# Altium footprint library PROC051C_PCB.PcbLib: 65 footprints (part 3 of 5)
Each footprint in its own frame and in the unit in brackets; x right, y up, seen from the top. Pads: shape width x height; smd on the part's side, far side on the other; paste and mask are expansions set on the pad; w line width, h text height; cw(c..) or ccw(c..) is an arc to the next point about the centre after c.
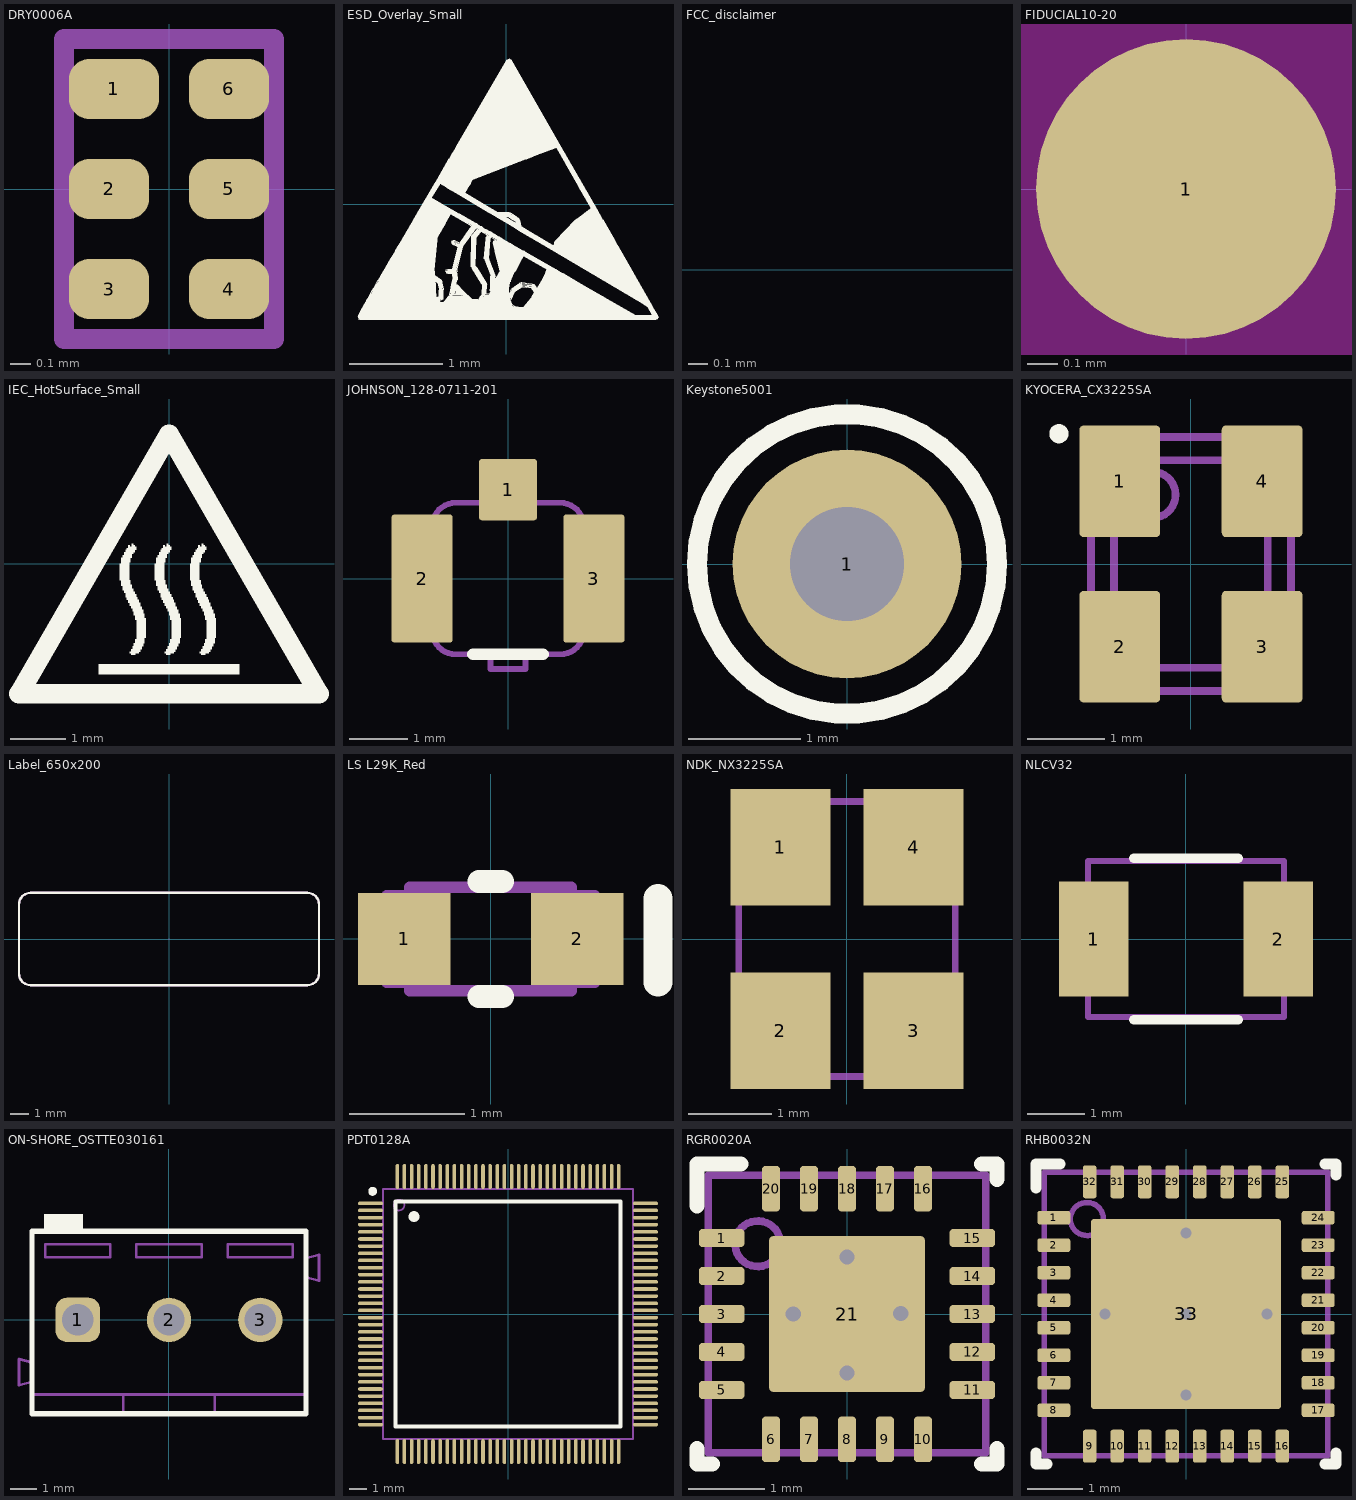
[diagram p2: the footprints below, top view; thin cyan lines are the x and y axes]

## DRY0006A [mm] "USON-6"
height 0.6
pads (6):
  rrect67% 0.45x0.3 smd paste-0.05 mask-0.05: 1(-0.275,0.5)
  rrect67% 0.4x0.3 smd paste-0.05 mask-0.05: 2(-0.3,0) 3(-0.3,-0.5) 4(0.3,-0.5) 5(0.3,0) 6(0.3,0.5)
Mechanical 5:
  circle w0.05: c-0.325,0.5 r0.1
  lines w0.1: -0.525,-0.75 0.525,-0.75 0.525,0.75 -0.525,0.75 -0.525,-0.75
  text ".Designator" at -0.075,0.575 h0.3
3D body "DRY0006A.stp": height 0.58, standoff 0, extent -0.5,-0.725 0.5,0.725

## ESD_Overlay_Small [mm]
height 0.6
Top Overlay:
  drawing of 901 lines, arcs and shapes, not listed

## FCC_disclaimer [mm]
Top Overlay:
  text "For evaluation only; not FCC approved for resale." at -15.928,-0.353 h1.52

## FIDUCIAL10-20 [mm]
height 0.6
pads (1):
  round 1 smd mask+0.5: 1(0,0)
Top Layer keep-out:
  circle w1.178: c0,0 r0.5

## IEC_HotSurface_Small [mm]
Top Overlay:
  drawing of 10 lines, arcs and shapes, not listed

## JOHNSON_128-0711-201 [mm] "UMC Straight Jack Receptacle, 50 Ohm, SMT"
height 1.25
pads (3):
  rrect10% 1x1.05 smd: 1(0,1.525)
  rrect10% 1.05x2.2 smd: 2(-1.475,0) 3(1.475,0)
Top Overlay:
  lines w0.2: -0.6,-1.3 0.6,-1.3
Mechanical 5:
  lines w0.1: -0.3,1.3 -0.3,1.55 0.3,1.55 0.3,1.3 ; -1.3,-0.9 ccw(c-0.9,-0.9) -0.9,-1.3 -0.3,-1.3 -0.3,-1.55 0.3,-1.55 0.3,-1.3 0.9,-1.3 ccw(c0.9,-0.9) 1.3,-0.9 ; -1.3,-0.9 -1.3,0.9 ; -1.3,-0.9 -1.5,-0.9 -1.5,0.9 -1.3,0.9 ; -1.3,0.9 cw(c-0.9,0.9) -0.9,1.3 0.9,1.3 cw(c0.9,0.9) 1.3,0.9 ; 1.3,-0.9 1.3,0.9 ; 1.3,-0.9 1.5,-0.9 1.5,0.9 1.3,0.9
  text ".Designator" at -0.297,-0.247 h0.8
3D body "128-0711-201.stp": height 1.25, standoff 0, extent -1.5,-1.55 1.5,1.55

## Keystone5001 [mil] "For Keystone 500x miniature loop terminals"
height 181.1
pads (1):
  round 80 hole 40: 1(0,0)
Top Overlay:
  circle w7: c0,0 r52.5
Mechanical 5:
  circle w3.94: c0,0 r52.5
  text ".Designator" at -92.97,-15 h18
3D body "Keystone_5001.stp": height 181.97, standoff -118.11, extent -49,-49 49.04,49.24

## KYOCERA_CX3225SA [mm] "SMD, 4-Leads, Body 3.2x2.5mm"
height 0.9
pads (4):
  rrect10% 1.05x1.45 smd: 1(-0.925,1.075) 2(-0.925,-1.075) 3(0.925,-1.075) 4(0.925,1.075)
Top Overlay:
  circle w0.125: c-1.717,1.694 r0.062
Mechanical 5:
  circle w0.1: c-0.5,0.9 r0.3
  lines w0.1: -1.3,-1.35 cw(c-1.3,-1.65) -1,-1.65 1,-1.65 cw(c1.3,-1.65) 1.3,-1.35 1.3,1.35 cw(c1.3,1.65) 1,1.65 -1,1.65 cw(c-1.3,1.65) -1.3,1.35 -1.3,-1.35 ; -1,-1.05 ccw(c-0.7,-1.05) -0.7,-1.35 0.7,-1.35 ccw(c0.7,-1.05) 1,-1.05 1,1.05 ccw(c0.7,1.05) 0.7,1.35 -0.7,1.35 ccw(c-0.7,1.05) -1,1.05 -1,-1.05
  text ".Designator" at -0.475,-0.461 h0.8
3D body: height 0.9, standoff 0.4, extent -0.999,-1.349 0.999,1.349
3D body: height 0.6, standoff 0, extent -1.301,-1.651 1.301,1.651
3D body: height 0.9, standoff 0.8, extent -0.799,0.601 -0.201,1.199

## Label_650x200 [mil] "Thermal Transfer Label"
height 1
pads (1):
  round 1 on Mech13: 0(0,0)
Top Overlay:
  lines w5: -325,-75 ccw(c-300,-75) -300,-100 300,-100 ccw(c300,-75) 325,-75 325,75 ccw(c300,75) 300,100 -300,100 ccw(c-300,75) -325,75 -325,-75
Mechanical 5:
  lines w5: -325,-75 ccw(c-300,-75) -300,-100 300,-100 ccw(c300,-75) 325,-75 325,75 ccw(c300,75) 300,100 -300,100 ccw(c-300,75) -325,75 -325,-75
  text ".Designator" at -60,-20 h40
3D body: height 1, standoff 0, extent -325.02,-100.02 325.02,100.02

## LS L29K_Red [mm] "SMD, 2-Leads, Body 1.3x0.8mm"
height 0.67
pads (2):
  rect 0.8x0.8 smd paste-0.4: 1(-0.75,0) 2(0.75,0)
Top Overlay:
  lines w0.2: -0.1,-0.5 0.1,-0.5 ; -0.1,0.5 0.1,0.5
  lines w0.25: 1.45,-0.375 1.45,0.35
Top Paste:
  rectangle: 0.5,-0.35 1.1,0.35
  rectangle: -1.1,-0.35 -0.5,0.35
Mechanical 5:
  lines w0.1: 0.7,0.375 0.9,0.375 0.9,-0.375 0.7,-0.375 ; 0.7,-0.375 0.7,-0.45 -0.7,-0.45 -0.7,-0.375 -0.9,-0.375 -0.9,0.375 -0.7,0.375 -0.7,0.45 0.7,0.45 ; 0.7,-0.375 0.7,0.2 ; 0.7,0.2 0.7,0.45 ; 0.7,0.2 0.45,0.45 0.7,0.45
  text ".Designator" at -0.75,-0.2 h0.35
3D body: height 0.67, standoff 0.65, extent 0.451,0.201 0.699,0.449
3D body: height 0.67, standoff 0.18, extent -0.699,-0.449 0.699,0.449
3D body: height 0.18, standoff 0, extent -0.699,-0.449 0.699,0.449
3D body: height 0.18, standoff 0, extent 0.701,-0.374 0.899,0.374
3D body: height 0.18, standoff 0, extent -0.899,-0.374 -0.701,0.374

## NDK_NX3225SA [mm] "NDK"
height 0.6
pads (4):
  rect 1.2x1.4 smd: 1(-0.8,1.1) 2(-0.8,-1.1) 3(0.8,-1.1) 4(0.8,1.1)
Mechanical 5:
  circle w0.08: c-0.8,1.1 r0.2
  lines w0.08: -1.3,-1.65 1.3,-1.65 1.3,1.65 -1.3,1.65 -1.3,-1.65
  text ".Designator" at 0.401,-0.915 h0.7
3D body "NDK_NX3225SA.stp": height 0.7, standoff 0, extent -1.3,-1.65 1.3,1.65

## NLCV32 [mm] "TDK"
height 2.4
pads (2):
  rect 1.2x2 smd: 1(-1.6,0) 2(1.6,0)
Top Overlay:
  lines w0.17: -0.9,-1.4 0.9,-1.4 ; -0.9,1.4 0.9,1.4
Mechanical 5:
  lines w0.1: -1.7,-1.35 -1.7,1.35 1.7,1.35 1.7,-1.35 -1.7,-1.35
  text ".Designator" at -1.081,-0.386 h0.9
3D body: height 2.4, standoff 0, extent -1.699,-1.349 1.699,1.349

## ON-SHORE_OSTTE030161 [mm] "Terminal Block, 3.5mm, 3x1, TH"
height 8.5
pads (3):
  rrect50% 1.7x1.7 hole 1.2: 1(-3.5,0)
  round 1.7 hole 1.2: 2(0,0) 3(3.5,0)
Top Overlay:
  rectangle: -4.8,3.45 -3.3,4.05
  lines w0.2: -5.25,-3.6 -5.25,3.4 5.25,3.4 5.25,-3.6 -5.25,-3.6
Mechanical 5:
  lines w0.1: 5.25,1.634 5.75,1.5 5.75,2.5 5.25,2.366 ; -5.25,-2.859 -5.25,3.4 -1.75,3.4 1.75,3.4 5.25,3.4 5.25,-2.859 ; -5.25,-2.859 -5.25,-3.6 -1.75,-3.6 ; -5.25,-2.859 -1.75,-2.859 ; -1.75,-3.6 1.75,-3.6 ; -1.75,-3.6 -1.75,-2.859 ; -1.75,-3.6 -1.75,-2.859 ; -1.75,-2.859 1.75,-2.859 ; 1.75,-3.6 5.25,-3.6 5.25,-2.859 ; 1.75,-3.6 1.75,-2.859 ; 1.75,-3.6 1.75,-2.859 ; 1.75,-2.859 5.25,-2.859 ; -5.75,-2.5 -5.25,-2.366 -5.25,-1.634 -5.75,-1.5 -5.75,-2.5 ; -4.75,2.4 -4.75,2.9 -2.25,2.9 -2.25,2.4 -4.75,2.4 ; -1.25,2.4 -1.25,2.9 1.25,2.9 1.25,2.4 -1.25,2.4 ; 2.25,2.4 2.25,2.9 4.75,2.9 4.75,2.4 2.25,2.4
  text ".Designator" at -1.234,0.972 h1.85
3D body "OSTTE030161.stp": height 8.4, standoff -3.8, extent -5.75,-3.6 5.75,3.4

## PDT0128A [mm] "Thin QFP, 128-Leads, Body 14x14mm, Pitch 0.4mm"
height 1.2
pads (128):
  oval 1.4x0.2 smd: 1(-7.7,6.2) 2(-7.7,5.8) 3(-7.7,5.4) 4(-7.7,5) 5(-7.7,4.6) 6(-7.7,4.2) 7(-7.7,3.8) 8(-7.7,3.4) 9(-7.7,3) 10(-7.7,2.6) 11(-7.7,2.2) 12(-7.7,1.8) 13(-7.7,1.4) 14(-7.7,1) 15(-7.7,0.6) 16(-7.7,0.2) 17(-7.7,-0.2) 18(-7.7,-0.6) 19(-7.7,-1) 20(-7.7,-1.4) 21(-7.7,-1.8) 22(-7.7,-2.2) 23(-7.7,-2.6) 24(-7.7,-3) 25(-7.7,-3.4) 26(-7.7,-3.8) 27(-7.7,-4.2) 28(-7.7,-4.6) 29(-7.7,-5) 30(-7.7,-5.4) 31(-7.7,-5.8) 32(-7.7,-6.2) 65(7.7,-6.2) 66(7.7,-5.8) 67(7.7,-5.4) 68(7.7,-5) 69(7.7,-4.6) 70(7.7,-4.2) 71(7.7,-3.8) 72(7.7,-3.4) 73(7.7,-3) 74(7.7,-2.6) 75(7.7,-2.2) 76(7.7,-1.8) 77(7.7,-1.4) 78(7.7,-1) 79(7.7,-0.6) 80(7.7,-0.2) 81(7.7,0.2) 82(7.7,0.6) 83(7.7,1) 84(7.7,1.4) 85(7.7,1.8) 86(7.7,2.2) 87(7.7,2.6) 88(7.7,3) 89(7.7,3.4) 90(7.7,3.8) 91(7.7,4.2) 92(7.7,4.6) 93(7.7,5) 94(7.7,5.4) 95(7.7,5.8) 96(7.7,6.2)
  oval 0.2x1.4 smd: 33(-6.2,-7.7) 34(-5.8,-7.7) 35(-5.4,-7.7) 36(-5,-7.7) 37(-4.6,-7.7) 38(-4.2,-7.7) 39(-3.8,-7.7) 40(-3.4,-7.7) 41(-3,-7.7) 42(-2.6,-7.7) 43(-2.2,-7.7) 44(-1.8,-7.7) 45(-1.4,-7.7) 46(-1,-7.7) 47(-0.6,-7.7) 48(-0.2,-7.7) 49(0.2,-7.7) 50(0.6,-7.7) 51(1,-7.7) 52(1.4,-7.7) 53(1.8,-7.7) 54(2.2,-7.7) 55(2.6,-7.7) 56(3,-7.7) 57(3.4,-7.7) 58(3.8,-7.7) 59(4.2,-7.7) 60(4.6,-7.7) 61(5,-7.7) 62(5.4,-7.7) 63(5.8,-7.7) 64(6.2,-7.7) 97(6.2,7.7) 98(5.8,7.7) 99(5.4,7.7) 100(5,7.7) 101(4.6,7.7) 102(4.2,7.7) 103(3.8,7.7) 104(3.4,7.7) 105(3,7.7) 106(2.6,7.7) 107(2.2,7.7) 108(1.8,7.7) 109(1.4,7.7) 110(1,7.7) 111(0.6,7.7) 112(0.2,7.7) 113(-0.2,7.7) 114(-0.6,7.7) 115(-1,7.7) 116(-1.4,7.7) 117(-1.8,7.7) 118(-2.2,7.7) 119(-2.6,7.7) 120(-3,7.7) 121(-3.4,7.7) 122(-3.8,7.7) 123(-4.2,7.7) 124(-4.6,7.7) 125(-5,7.7) 126(-5.4,7.7) 127(-5.8,7.7) 128(-6.2,7.7)
Top Overlay:
  circle w0.25: c-7.575,6.87 r0.125
  lines w0.2: -6.3,-6.3 -6.3,6.3 6.3,6.3 6.3,-6.3 -6.3,-6.3
  lines w0.6: -5.265,5.446 ccw(c-5.564,5.462) -5.264,5.462
Mechanical 5:
  circle w0.1: c-6.1,6.1 r0.3
  lines w0.1: -7,-7 -7,7 7,7 7,-7 -7,-7
  text ".Designator" at 1.275,-1.498 h1.02
3D body "PDT0128A.stp": height 1.07, standoff 0, extent -8,-8 8,8

## RGR0020A [mm] "QFN, 20-Leads, Body 3.5x3.5mm, Pitch 0.5mm, Thermal Pad 2.05x2.05mm, TI Recommended"
height 1
pads (21):
  rrect42% 0.6x0.24 smd: 1(-1.65,1) 2(-1.65,0.5) 3(-1.65,0) 4(-1.65,-0.5) 5(-1.65,-1) 11(1.65,-1) 12(1.65,-0.5) 13(1.65,0) 14(1.65,0.5) 15(1.65,1)
  rrect42% 0.24x0.6 smd: 6(-1,-1.65) 7(-0.5,-1.65) 8(0,-1.65) 9(0.5,-1.65) 10(1,-1.65) 16(1,1.65) 17(0.5,1.65) 18(0,1.65) 19(-0.5,1.65) 20(-1,1.65)
  rrect5% 2.05x2.05 smd paste-1.025: 21(0,0)
via 0.708,0.006 diameter 0.5 hole 0.2
via -0.707,0 diameter 0.5 hole 0.2
via 0,0.751 diameter 0.5 hole 0.2
via 0,-0.775 diameter 0.5 hole 0.2
Top Overlay:
  lines w0.2: -1.975,-1.775 -1.975,-1.975 -1.775,-1.975 ; -1.975,1.425 -1.975,1.975 -1.4,1.975 ; 1.775,-1.975 1.975,-1.975 1.975,-1.775 ; 1.775,1.975 1.975,1.975 1.975,1.775
Top Paste:
  region: 0.1,0.15 0.1,0.97 0.1,0.98 0.108,0.998 0.122,1.012 0.14,1.02 0.15,1.02 0.97,1.02 0.98,1.02 0.998,1.012 1.012,0.998 1.02,0.98 1.02,0.97 1.02,0.15 1.02,0.14 1.012,0.122 0.998,0.108 0.98,0.1 0.97,0.1 0.15,0.1 0.14,0.1 0.122,0.108 0.108,0.122 0.1,0.14
  region: -0.1,0.15 -0.1,0.97 -0.1,0.98 -0.108,0.998 -0.122,1.012 -0.14,1.02 -0.15,1.02 -0.97,1.02 -0.98,1.02 -0.998,1.012 -1.012,0.998 -1.02,0.98 -1.02,0.97 -1.02,0.15 -1.02,0.14 -1.012,0.122 -0.998,0.108 -0.98,0.1 -0.97,0.1 -0.15,0.1 -0.14,0.1 -0.122,0.108 -0.108,0.122 -0.1,0.14
  region: -0.1,-0.15 -0.1,-0.97 -0.1,-0.98 -0.108,-0.998 -0.122,-1.012 -0.14,-1.02 -0.15,-1.02 -0.97,-1.02 -0.98,-1.02 -0.998,-1.012 -1.012,-0.998 -1.02,-0.98 -1.02,-0.97 -1.02,-0.15 -1.02,-0.14 -1.012,-0.122 -0.998,-0.108 -0.98,-0.1 -0.97,-0.1 -0.15,-0.1 -0.14,-0.1 -0.122,-0.108 -0.108,-0.122 -0.1,-0.14
  region: 0.1,-0.15 0.1,-0.97 0.1,-0.98 0.108,-0.998 0.122,-1.012 0.14,-1.02 0.15,-1.02 0.97,-1.02 0.98,-1.02 0.998,-1.012 1.012,-0.998 1.02,-0.98 1.02,-0.97 1.02,-0.15 1.02,-0.14 1.012,-0.122 0.998,-0.108 0.98,-0.1 0.97,-0.1 0.15,-0.1 0.14,-0.1 0.122,-0.108 0.108,-0.122 0.1,-0.14
Mechanical 5:
  circle w0.1: c-1.175,0.925 r0.3
  lines w0.1: -1.825,-1.825 1.825,-1.825 1.825,1.825 -1.825,1.825 -1.825,-1.825
  text ".Designator" at 0.436,-0.688 h0.76
3D body "RGR0020A.stp": height 1, standoff 0, extent -1.75,-1.75 1.75,1.75

## RHB0032N [mm] "QFN, 32-Leads, Body 5x5mm, Pitch 0.5mm, Thermal Pad 3.45x3.45mm"
height 0.9
pads (37):
  rrect40% 0.6x0.25 smd: 1(-2.4,1.75) 2(-2.4,1.25) 3(-2.4,0.75) 4(-2.4,0.25) 5(-2.4,-0.25) 6(-2.4,-0.75) 7(-2.4,-1.25) 8(-2.4,-1.75) 17(2.4,-1.75) 18(2.4,-1.25) 19(2.4,-0.75) 20(2.4,-0.25) 21(2.4,0.25) 22(2.4,0.75) 23(2.4,1.25) 24(2.4,1.75)
  rrect40% 0.25x0.6 smd: 9(-1.75,-2.4) 10(-1.25,-2.4) 11(-0.75,-2.4) 12(-0.25,-2.4) 13(0.25,-2.4) 14(0.75,-2.4) 15(1.25,-2.4) 16(1.75,-2.4) 25(1.75,2.4) 26(1.25,2.4) 27(0.75,2.4) 28(0.25,2.4) 29(-0.25,2.4) 30(-0.75,2.4) 31(-1.25,2.4) 32(-1.75,2.4)
  rrect3% 3.45x3.45 smd paste-1.725: 33(0,0)
  rrect50% 1.49x1.49 on Top Paste: ""(-0.845,-0.845) ""(-0.845,0.845) ""(0.845,-0.845) ""(0.845,0.845)
via 0,-1.475 diameter 0.5 hole 0.2
via 1.475,0 diameter 0.5 hole 0.2
via 0,0 diameter 0.5 hole 0.2
via -1.475,0 diameter 0.5 hole 0.2
via 0,1.475 diameter 0.5 hole 0.2
Top Overlay:
  lines w0.2: -2.725,-2.525 -2.725,-2.725 -2.525,-2.725 ; -2.725,2.29 -2.725,2.725 -2.29,2.725 ; 2.525,-2.725 2.725,-2.725 2.725,-2.525 ; 2.525,2.725 2.725,2.725 2.725,2.525
Mechanical 5:
  circle w0.1: c-1.8,1.725 r0.3
  lines w0.1: -2.575,-2.575 -2.575,2.575 ; -2.575,-2.575 -2.575,2.575 ; -2.575,-2.575 2.575,-2.575 ; -2.575,-2.575 2.575,-2.575 ; -2.575,2.575 2.575,2.575 ; -2.575,2.575 2.575,2.575 ; 2.575,-2.575 2.575,2.575 ; 2.575,-2.575 2.575,2.575
  text ".Designator" at -0.448,0.654 h1.02
3D body: height 0.9, standoff 0.9, extent -2.099,1.426 -1.501,2.024
3D body "RHB0032N.stp": height 0.9, standoff 0, extent -2.5,-2.5 2.5,2.5